# Altium schematic symbol library Transistors.SchLib: 28 symbols
Pins are listed as number, name and electrical type; pins without a type are passive.

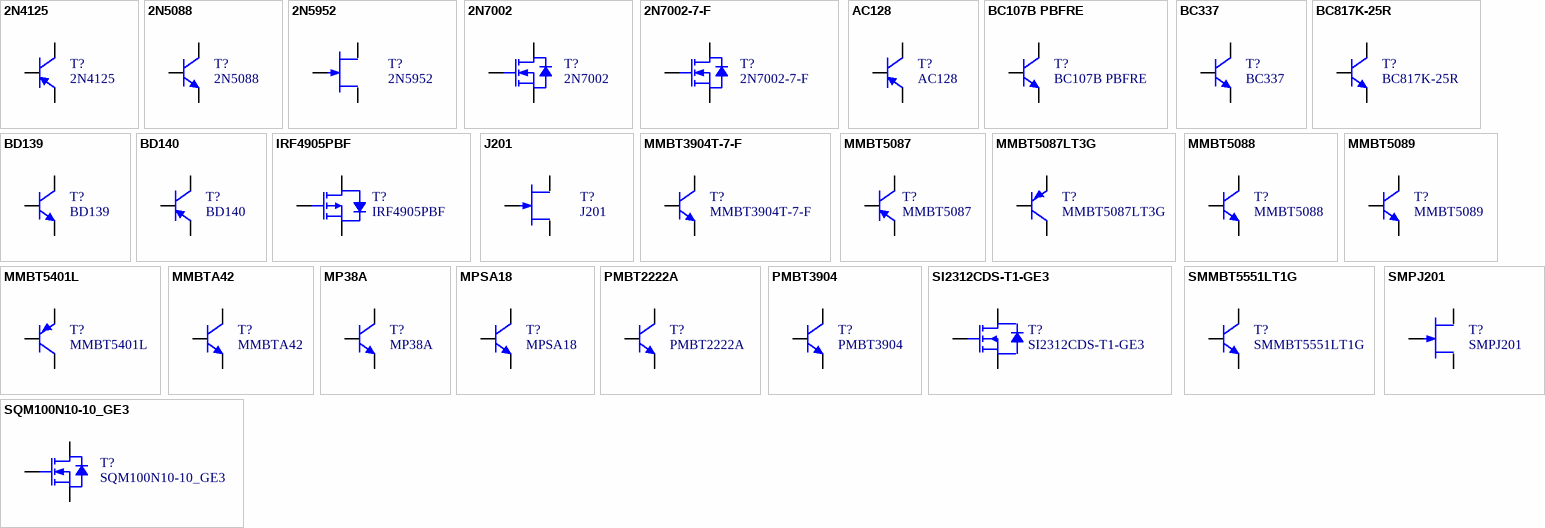
[diagram p0: symbols 2N4125 to SQM100N10-10_GE3]

## 2N4125
designator T?
BJT 200mA 30V PNP; Code: XE_T0005
footprint TO-92
pins: 1 E, 2 B, 3 C

## 2N5088
designator T?
BJT 50mA 35V NPN; Code: XE_T0006
footprint TO-92
pins: 1 E, 2 B, 3 C

## 2N5952
designator T?
Transistor RF JFET N-Ch 30Vgs 30Vdg 10mA 360mW; Code: XE_T0007
footprint TO-92
pins: 1 G, 2 S, 3 D

## 2N7002
designator T?
60 V 7.5 Ohm Enhancement Mode; Code: XE_T0008
footprint TO-92
pins: 1 S, 2 G, 3 D

## 2N7002-7-F
designator T?
60 V 7.5 Ohm Enhancement Mode; Code: XE_T0009
footprint SOT-23
pins: 1 G, 2 D, 3 S

## AC128
designator T?
Germanium PNP; Code: XE_T0016
footprint TO-18
pins: 1 C, 2 B, 3 E

## BC107B PBFRE
designator T?
NPN 50Vcbo 45Vceo 6.0Vebo 200mA; Code: XE_T0026
footprint TO-18
pins: 1 C, 2 B, 3 E

## BC337
designator T?
BJT 800mA 55V NPN; Code: XE_T0010
footprint TO-92
footprint SOT-23
pins: 1 C, 2 B, 3 E

## BC817K-25R
designator T?
BJT 500mA 45V NPN; Code: XE_T0015
footprint SOT-23
pins: 1 B, 2 C, 3 E

## BD139
designator T?
BJT 1.5A 80V NPN; Code: XE_T0003
footprint SOT32
pins: 1 B, 2 C, 3 E

## BD140
designator T?
BJT 1.5A 80V PNP; Code: XE_T0002
footprint SOT32
pins: 1 B, 2 C, 3 E

## IRF4905PBF
designator T?
55V 74A P channel; Code: XE_T0011
footprint TO-220
pins: 1 G, 2 D, 3 S

## J201
designator T?
JFET JFET N-Channel -40V 50mA 360mW 3.27mW; Code: XE_T0004
footprint TO-92
pins: 2 D, 3 G, 3 S

## MMBT3904T-7-F
designator T?
BJT 200mA 40V NPN; Code: XE_T0025
footprint SOT-23
pins: 1 B, 2 C, 3 E

## MMBT5087
designator T?
BJT 50mA 35V NPN; Code: XE_T0017
footprint SOT-23
pins: 1 B, 2 C, 3 E

## MMBT5087LT3G
designator T?
BJT 50mA 50V PNP; Code: XE_T0012
footprint SOT-23
pins: 1 B, 2 C, 3 E

## MMBT5088
designator T?
BJT 50mA 35V NPN; Code: XE_T0017
footprint SOT-23
pins: 1 B, 2 C, 3 E

## MMBT5089
designator T?
BJT 50mA 35V NPN; Code: XE_T0018
footprint SOT-23
pins: 1 B, 2 C, 3 E

## MMBT5401L
designator T?
BJT 500mA 150V PNP; Code: XE_T0012
footprint SOT-23
pins: 1 B, 2 C, 3 E

## MMBTA42
designator T?
BJT 500mA 300V NPN; Code: XE_T0024
footprint SOT-23
pins: 1 B, 2 C, 3 E

## MP38A
designator T?
NPN 15Vcbo 15Vceo 6.0Vebo 20mA; Code: XE_T0027
footprint TO-18
pins: 1 C, 2 B, 3 E

## MPSA18
designator T?
BJT 50mA 45V NPN; Code: XE_T0022
footprint TO-92
pins: 1 E, 2 B, 3 C

## PMBT2222A
designator T?
BJT 600mA 40V NPN; Code: XE_T0013
footprint SOT-23
pins: 1 B, 2 C, 3 E

## PMBT3904
designator T?
BJT 200mA 40V NPN; Code: XE_T0021
footprint SOT-23
pins: 1 B, 2 C, 3 E

## SI2312CDS-T1-GE3
designator T?
MOSFET 20V Vds 8V Vgs SOT-23; Code: XE_T0023
footprint SOT-23
pins: 1 G, 2 D, 3 S

## SMMBT5551LT1G
designator T?
BJT 600mA 160V NPN; Code: XE_T0015
footprint SOT-23
pins: 1 B, 2 C, 3 E

## SMPJ201
designator T?
JFET JFET N-Channel -40V 50mA 360mW 3.27mW; Code: XE_T0001
footprint SOT-23
pins: 1 S, 2 G, 3 D

## SQM100N10-10_GE3
designator T?
MOSFET 100V 100A 375W AEC-Q101 Qualified; Code Arduino: XE_T0027
footprint TO-263
pins: 1 G, 2 D, 3 S